# Altium integrated library UVZ1H102MHD.IntLib: 1 symbol
Pins are listed as number, name and electrical type; pins without a type are passive.

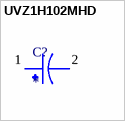
[diagram p0: symbol UVZ1H102MHD]

## UVZ1H102MHD
designator C?
1000 ÂµF 50 V Aluminum Electrolytic Capacitors Radial, Can - 1000 Hrs @ 105Â°C; MF: Nichicon; MP: UVZ1H102MHD; SnapEDA_Link: https://www.snapeda.com/parts/UVZ1H102MHD/Nichicon/view-part/?ref=snap; Package: Radial Nichicon; Value: *; Check_prices: https://www.snapeda.com/parts/UVZ1H102MHD/Nichicon/view-part/?ref=eda
footprint CAPPRD500W60D1250H2700
pins: 1, 2